# Altium footprint library 敏儿好学.PcbLib: 26 footprints (part 1 of 2)
Each footprint in its own frame and in the unit in brackets; x right, y up, seen from the top. Pads: shape width x height; smd on the part's side, far side on the other; paste and mask are expansions set on the pad; w line width, h text height; cw(c..) or ccw(c..) is an arc to the next point about the centre after c.
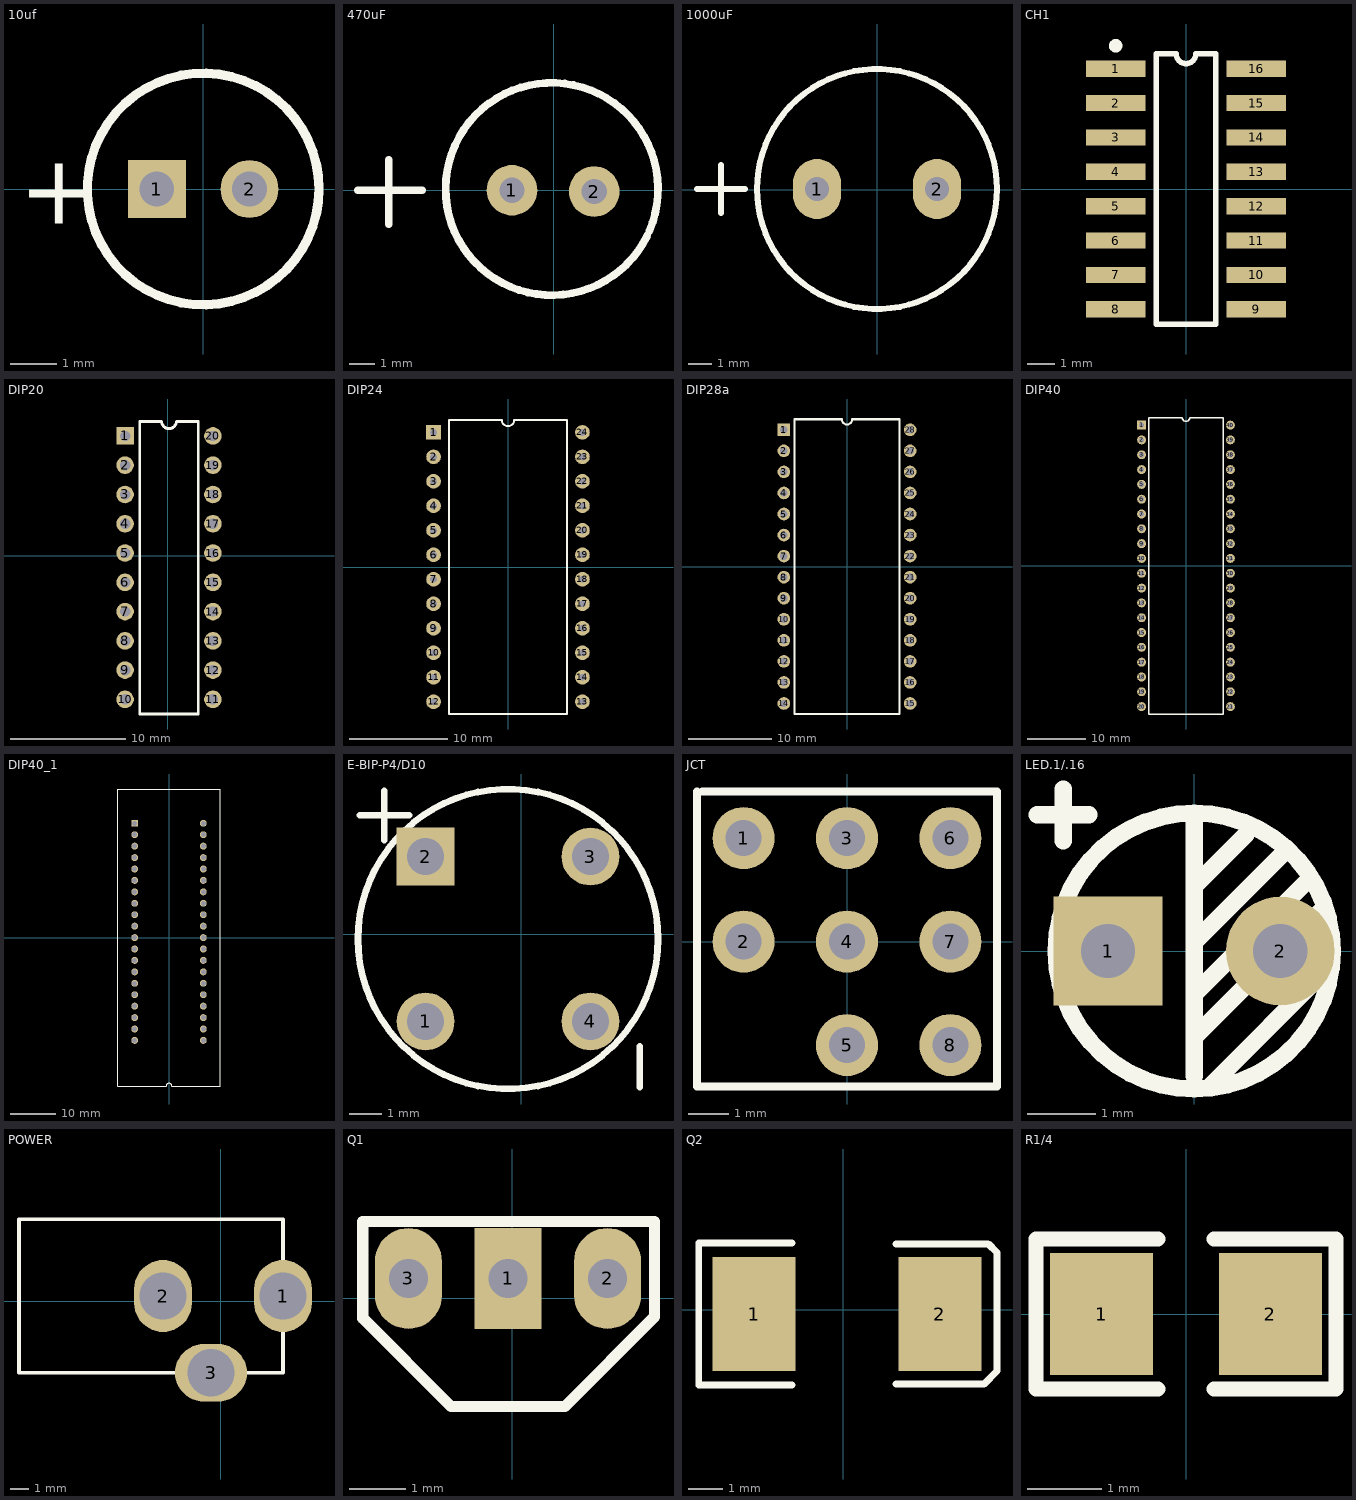
[diagram p0: the footprints below, top view; thin cyan lines are the x and y axes]

## 10uf [mm]
height 3.048
pads (2):
  rect 1.25x1.25 hole 0.75: 1(-1,0)
  round 1.25 hole 0.75: 2(1,0)
Top Overlay:
  circle w0.2: c0,0 r2.5
  text "+" at -3.975,-0.75 h1.5

## 470uF [mm]
height 3.048
pads (2):
  round 2 hole 1: 1(-1.651,0) 2(1.6,-0.051)
Top Overlay:
  lines w0.305: -7.741,0.001 -5.201,0.001 ; -6.521,-1.344 -6.521,1.196 ; 3.702,-1.783 cw(c-0.076,0.051) 3.783,-1.607

## 1000uF [mil]
height 120
pads (2):
  oval 80x100 hole 40: 1(-100,1) 2(100,1)
Top Overlay:
  circle w10: c0,1 r200
  lines w10: -300,1 -220,1 ; -260,-39 -260,41

## CH1 [mm]
height 1.27
pads (16):
  rect 2.2x0.6 smd: 1(-2.6,4.445) 2(-2.6,3.175) 3(-2.6,1.905) 4(-2.6,0.635) 5(-2.6,-0.635) 6(-2.6,-1.905) 7(-2.6,-3.175) 8(-2.6,-4.445) 9(2.6,-4.445) 10(2.6,-3.175) 11(2.6,-1.905) 12(2.6,-0.635) 13(2.6,0.635) 14(2.6,1.905) 15(2.6,3.175) 16(2.6,4.445)
Top Overlay:
  circle w0.25: c-2.6,5.295 r0.125
  lines w0.2: -1.1,-5 -1.1,5 -0.367,5 ccw(c0,5) 0.367,5 1.1,5 1.1,-5 -1.1,-5

## DIP20 [mil]
height 120
pads (20):
  rect 60x60 hole 35.43: 1(-146,410)
  round 60 hole 35.43: 2(-146,310) 3(-146,210) 4(-146,110) 5(-146,10) 6(-146,-90) 7(-146,-190) 8(-146,-290) 9(-146,-390) 10(-146,-490) 11(154,-490) 12(154,-390) 13(154,-290) 14(154,-190) 15(154,-90) 16(154,10) 17(154,110) 18(154,210) 19(154,310) 20(154,410)
Top Overlay:
  lines w10: -96,-540 104,-540 104,460 29,460 cw(c4,460) -21,460 -96,460 -96,-540

## DIP24 [mm]
height 3.048
pads (24):
  rect 1.5x1.5 hole 0.7: 1(-7.6,13.75)
  round 1.5 hole 0.7: 2(-7.6,11.25) 3(-7.6,8.75) 4(-7.6,6.25) 5(-7.6,3.75) 6(-7.6,1.25) 7(-7.6,-1.25) 8(-7.6,-3.75) 9(-7.6,-6.25) 10(-7.6,-8.75) 11(-7.6,-11.25) 12(-7.6,-13.75) 13(7.6,-13.75) 14(7.6,-11.25) 15(7.6,-8.75) 16(7.6,-6.25) 17(7.6,-3.75) 18(7.6,-1.25) 19(7.6,1.25) 20(7.6,3.75) 21(7.6,6.25) 22(7.6,8.75) 23(7.6,11.25) 24(7.6,13.75)
Top Overlay:
  lines w0.2: -6.015,-15 -6.015,15 -0.625,15 ccw(c0,15) 0.625,15 6.015,15 6.015,-15 -6.015,-15

## DIP28a [mil]
height 120
pads (28):
  rect 60x60 hole 35: 1(-300,650)
  round 60 hole 35: 2(-300,550) 3(-300,450) 4(-300,350) 5(-300,250) 6(-300,150) 7(-300,50) 8(-300,-50) 9(-300,-150) 10(-300,-250) 11(-300,-350) 12(-300,-450) 13(-300,-550) 14(-300,-650) 15(300,-650) 16(300,-550) 17(300,-450) 18(300,-350) 19(300,-250) 20(300,-150) 21(300,-50) 22(300,50) 23(300,150) 24(300,250) 25(300,350) 26(300,450) 27(300,550) 28(300,650)
Top Overlay:
  lines w10: -250,-700 250,-700 250,700 25,700 cw(c0,700) -25,700 -250,700 -250,-700

## DIP40 [mil]
height 120
pads (40):
  rect 60x60 hole 35.43: 1(-300,950)
  round 60 hole 35.43: 2(-300,850) 3(-300,750) 4(-300,650) 5(-300,550) 6(-300,450) 7(-300,350) 8(-300,250) 9(-300,150) 10(-300,50) 11(-300,-50) 12(-300,-150) 13(-300,-250) 14(-300,-350) 15(-300,-450) 16(-300,-550) 17(-300,-650) 18(-300,-750) 19(-300,-850) 20(-300,-950) 21(300,-950) 22(300,-850) 23(300,-750) 24(300,-650) 25(300,-550) 26(300,-450) 27(300,-350) 28(300,-250) 29(300,-150) 30(300,-50) 31(300,50) 32(300,150) 33(300,250) 34(300,350) 35(300,450) 36(300,550) 37(300,650) 38(300,750) 39(300,850) 40(300,950)
Top Overlay:
  lines w10: -250,-1000 250,-1000 250,1000 25,1000 cw(c0,1000) -25,1000 -250,1000 -250,-1000

## DIP40_1 [mil]
height 200
pads (40):
  rect 60x60 hole 43.31: 1(-300,1000)
  round 60 hole 43.31: 2(-300,900) 3(-300,800) 4(-300,700) 5(-300,600) 6(-300,500) 7(-300,400) 8(-300,300) 9(-300,200) 10(-300,100) 11(-300,0) 12(-300,-100) 13(-300,-200) 14(-300,-300) 15(-300,-400) 16(-300,-500) 17(-300,-600) 18(-300,-700) 19(-300,-800) 20(-300,-900) 21(300,-900) 22(300,-800) 23(300,-700) 24(300,-600) 25(300,-500) 26(300,-400) 27(300,-300) 28(300,-200) 29(300,-100) 30(300,0) 31(300,100) 32(300,200) 33(300,300) 34(300,400) 35(300,500) 36(300,600) 37(300,700) 38(300,800) 39(300,900) 40(300,1000)
Top Overlay:
  lines w10: -450,-1300 -450,1300 450,1300 450,-1300 25,-1300 ccw(c0,-1300) -25,-1300 -450,-1300

## E-BIP-P4/D10 [mil]
height 120
pads (4):
  round 70 hole 45: 1(-116,-106) 3(84,94) 4(84,-106)
  rect 70x70 hole 45: 2(-116,94)
Top Overlay:
  circle w8: c-16,-6 r182
  lines w8: -196,144 -136,144 ; -166,114 -166,174 ; 144,-186 144,-136

## JCT [mil]
height 120
pads (8):
  round 60 hole 35: 1(-100,100) 2(-100,0) 3(0,100) 4(0,0) 5(0,-100) 6(100,100) 7(100,0) 8(100,-100)
Top Overlay:
  lines w8: -145,145 -145,-140 145,-140 145,145 -140,145

## LED.1/.16 [mm]
height 3.048
pads (2):
  rect 1.6x1.6 hole 0.8: 1(-1.27,0)
  round 1.6 hole 0.8: 2(1.27,0)
Top Overlay:
  circle w0.254: c0,0 r2.033
  lines w0.254: -2.311,2.007 -1.549,2.007 ; -1.93,1.626 -1.93,2.388 ; 0,-1.841 0,1.905 ; 0,-1.27 1.905,0.635 ; 0,-0.635 1.714,1.079 ; 0,0.127 1.27,1.397 ; 0,0.953 0.762,1.714 ; 0.254,-1.968 1.968,-0.254

## POWER [mil]
height 120
pads (3):
  oval 120x150 hole 98.42: 1(130,11) 2(-120,11)
  oval 150x120 hole 98.42: 3(-20,-149)
Top Overlay:
  lines w8: -420,-149 130,-149 130,171 -420,171 -420,-149

## Q1 [mm]
height 1.27
pads (3):
  rect 1.2x1.8 hole 0.7: 1(-0.076,0.356)
  oval 1.2x1.8 hole 0.7: 2(1.702,0.356) 3(-1.854,0.356)
Top Overlay:
  lines w0.203: -2.667,-0.356 -1.092,-1.93 0.94,-1.93 2.54,-0.33 2.54,1.372 -2.667,1.372 -2.667,-0.356

## Q2 [mm]
height 0.762
pads (2):
  rect 2.4x3.3 smd: 1(-2.586,-0.127) 2(2.794,-0.127)
Top Overlay:
  lines w0.2: -1.486,-2.177 -4.186,-2.177 -4.186,1.923 -1.486,1.923
  lines w0.203: 1.524,-2.159 4.064,-2.159 4.445,-1.778 4.445,1.651 4.191,1.905 1.524,1.905

## R1/4 [mil]
height 20
pads (2):
  rect 55x65 smd: 1(-45,0) 2(45,0)
Top Overlay:
  lines w8: -15,-40 -80,-40 -80,40 -15,40 ; 15,-40 80,-40 80,40 15,40